# Altium footprint library SM07BSRSSTBLFSN.PcbLib: 1 footprints
Each footprint in its own frame and in the unit in brackets; x right, y up, seen from the top. Pads: shape width x height; smd on the part's side, far side on the other; paste and mask are expansions set on the pad; w line width, h text height; cw(c..) or ccw(c..) is an arc to the next point about the centre after c.
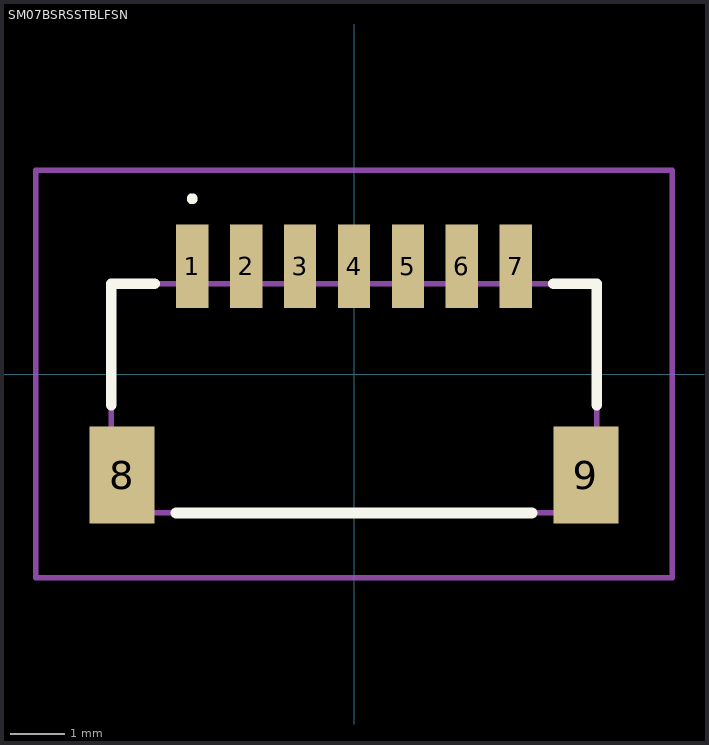
[diagram p0: the footprint, top view; thin cyan lines are the x and y axes]

## SM07BSRSSTBLFSN [mm]
pads (9):
  rect 0.6x1.55 smd: 1(-3,2) 2(-2,2) 3(-1,2) 4(0,2) 5(1,2) 6(2,2) 7(3,2)
  rect 1.2x1.8 smd: 8(-4.3,-1.875) 9(4.3,-1.875)
Top Overlay:
  lines w0.1: -3,3.2 -3,3.2 ; -3,3.2 ccw(c-3,3.25) -3,3.3 ; -3,3.2 cw(c-3,3.25) -3,3.3 ; -3,3.3 -3,3.3
  lines w0.2: -4.5,-0.575 -4.5,1.675 -3.7,1.675 ; -3.3,-2.575 3.3,-2.575 ; 3.7,1.675 4.5,1.675 4.5,-0.575
Mechanical 15:
  lines w0.1: -4.5,-2.575 4.5,-2.575 4.5,1.675 -4.5,1.675 -4.5,-2.575
Mechanical 20:
  lines w0.1: -5.9,-3.775 5.9,-3.775 5.9,3.775 -5.9,3.775 -5.9,-3.775